# Altium schematic symbol library Dodatkowe.SchLib: 1 symbol
Pins are listed as number, name and electrical type; pins without a type are passive.

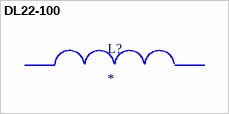
[diagram p0: symbol DL22-100]

## DL22-100
designator L?
supplier 1: TME; supplier part number 1: DL22-100; helpurl: https://www.tme.eu/pl/Document/6ba894df3330489656add27ab934f082/dl2250.pdf
footprint DL22
pins: 1, 2